# EAGLE library part SLW10S-1C7LF (library FCI-tkr)
FFC/FPC CONNECTOR, 10POS, 1ROW
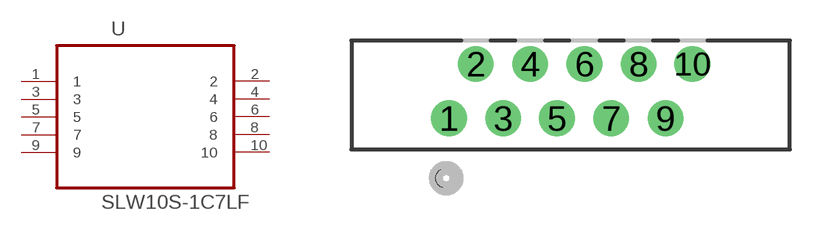
[diagram p80: symbol with the pads of FCI_SLW10S-1C7LF; footprint FCI_SLW10S-1C7LF]

Designator prefix U

## SLW10S-1C7LF (MPN: SLW10S-1C7LF; OC_FARNELL: 1835456; OC_NEWARK: 06M0490; PACKAGE: CONNECTOR-10POS; SUPPLIER: FCI)  [FCI_SLW10S-1C7LF]
1  1  pas
2  2  pas
3  3  pas
4  4  pas
5  5  pas
6  6  pas
7  7  pas
8  8  pas
9  9  pas
10  10  pas

## Footprint FCI_SLW10S-1C7LF (pad centres in mm)
drill 0.813: 1 0,0; 2 0.991,2.007; 3 2.007,0; 4 2.997,2.007; 5 3.988,0; 6 5.004,2.007; 7 5.994,0; 8 7.01,2.007; 9 8.001,0; 10 8.992,2.007